# Altium schematic symbol library GY-SHT30.SchLib: 1 symbol
Pins are listed as number, name and electrical type; pins without a type are passive.

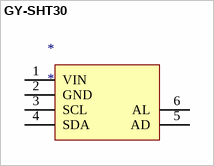
[diagram p0: symbol GY-SHT30]

## GY-SHT30
designator *
pins: 1 VIN, 2 GND, 3 SCL, 4 SDA, 5 AD, 6 AL